# Altium footprint library EnergyHarvester_2012.PcbLib: 27 footprints (part 2 of 2)
Each footprint in its own frame and in the unit in brackets; x right, y up, seen from the top. Pads: shape width x height; smd on the part's side, far side on the other; paste and mask are expansions set on the pad; w line width, h text height; cw(c..) or ccw(c..) is an arc to the next point about the centre after c.
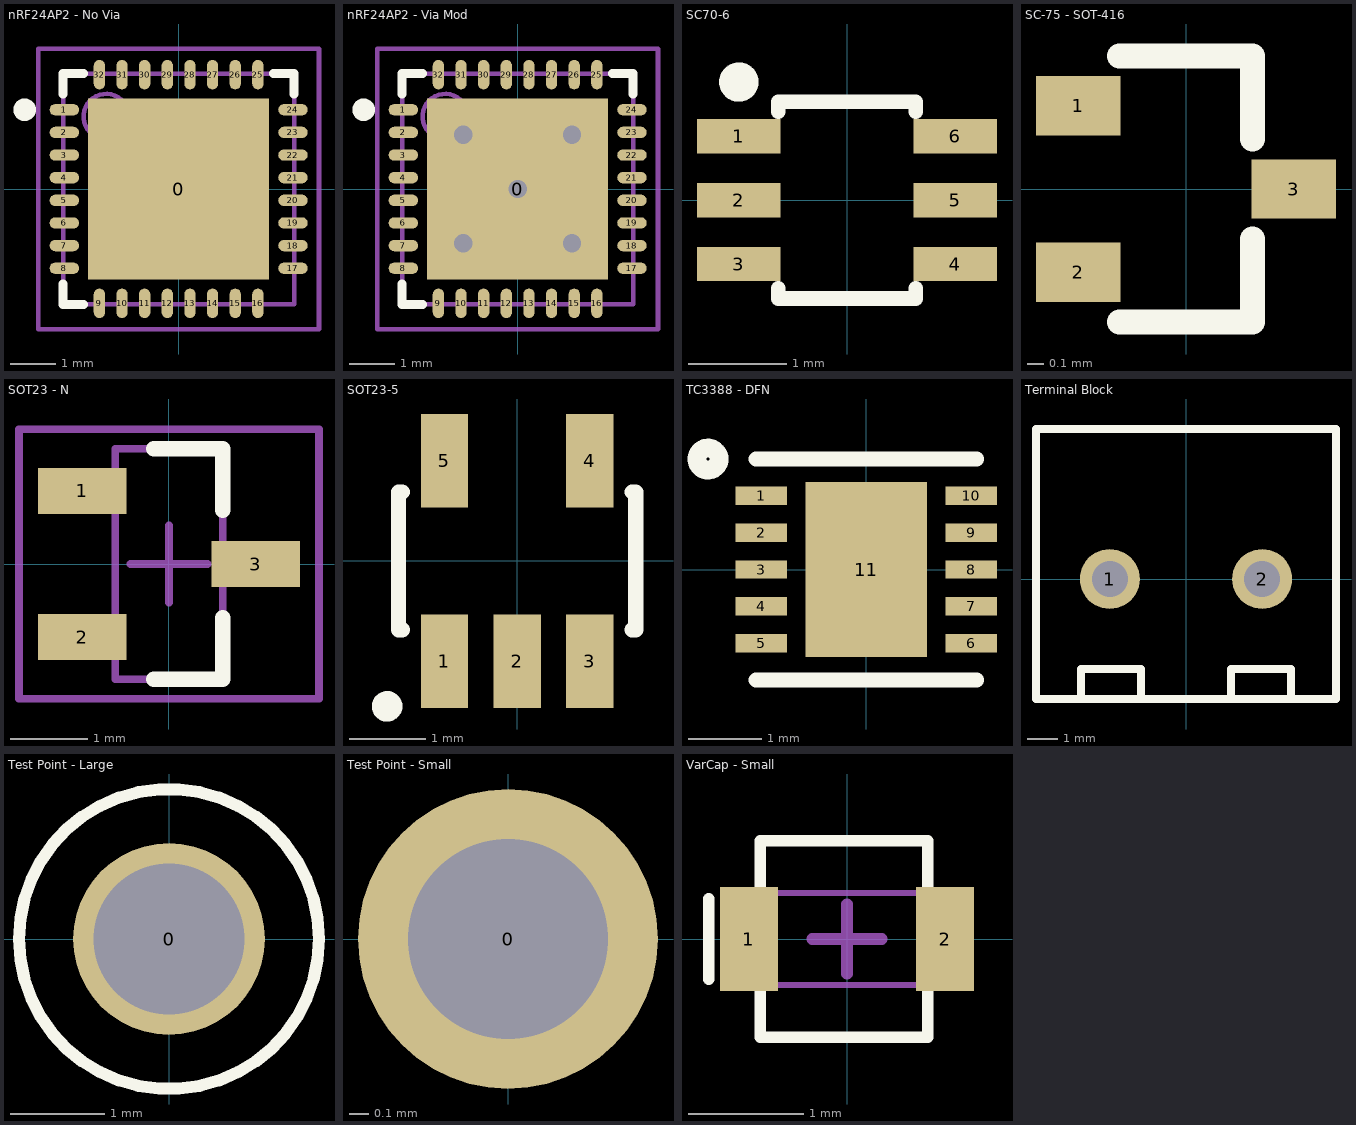
[diagram p1: the footprints below, top view; thin cyan lines are the x and y axes]

## nRF24AP2 - No Via [mm] "RF Transceiver SNGL-CHP ANT (Modifed to meet sunstone via rules)"
height 0.85
pads (33):
  rect 4x4 smd: 0(0,0)
  oval 0.65x0.25 smd: 1(-2.525,1.75) 2(-2.525,1.25) 3(-2.525,0.75) 4(-2.525,0.25) 5(-2.525,-0.25) 6(-2.525,-0.75) 7(-2.525,-1.25) 8(-2.525,-1.75) 17(2.525,-1.75) 18(2.525,-1.25) 19(2.525,-0.75) 20(2.525,-0.25) 21(2.525,0.25) 22(2.525,0.75) 23(2.525,1.25) 24(2.525,1.75)
  oval 0.25x0.65 smd: 9(-1.75,-2.525) 10(-1.25,-2.525) 11(-0.75,-2.525) 12(-0.25,-2.525) 13(0.25,-2.525) 14(0.75,-2.525) 15(1.25,-2.525) 16(1.75,-2.525) 25(1.75,2.525) 26(1.25,2.525) 27(0.75,2.525) 28(0.25,2.525) 29(-0.25,2.525) 30(-0.75,2.525) 31(-1.25,2.525) 32(-1.75,2.525)
Top Overlay:
  circle w0.25: c-3.4,1.75 r0.125
  lines w0.2: -2.55,-2.1 -2.55,-2.55 -2.1,-2.55 ; -2.55,2.1 -2.55,2.55 -2.1,2.55 ; 2.1,2.55 2.55,2.55 2.55,2.1
Mechanical 13:
  circle w0.1: c-1.6,1.6 r0.5
  lines w0.1: -2.55,-2.55 -2.55,2.55 2.55,2.55 2.55,-2.55 -2.55,-2.55
Mechanical 15:
  lines w0.1: -0.5,0 0.5,0 ; 0,-0.5 0,0.5 ; -3.1,-3.1 -3.1,3.1 3.1,3.1 3.1,-3.1 -3.1,-3.1
3D body: height 0.85, standoff 0.02, extent -2.55,-2.55 2.55,2.55

## nRF24AP2 - Via Mod [mm] "RF Transceiver SNGL-CHP ANT (Modifed to meet sunstone via rules)"
height 0.85
pads (33):
  rect 4x4 smd: 0(0,0)
  oval 0.65x0.25 smd: 1(-2.525,1.75) 2(-2.525,1.25) 3(-2.525,0.75) 4(-2.525,0.25) 5(-2.525,-0.25) 6(-2.525,-0.75) 7(-2.525,-1.25) 8(-2.525,-1.75) 17(2.525,-1.75) 18(2.525,-1.25) 19(2.525,-0.75) 20(2.525,-0.25) 21(2.525,0.25) 22(2.525,0.75) 23(2.525,1.25) 24(2.525,1.75)
  oval 0.25x0.65 smd: 9(-1.75,-2.525) 10(-1.25,-2.525) 11(-0.75,-2.525) 12(-0.25,-2.525) 13(0.25,-2.525) 14(0.75,-2.525) 15(1.25,-2.525) 16(1.75,-2.525) 25(1.75,2.525) 26(1.25,2.525) 27(0.75,2.525) 28(0.25,2.525) 29(-0.25,2.525) 30(-0.75,2.525) 31(-1.25,2.525) 32(-1.75,2.525)
via -1.2,-1.2 diameter 0.838 hole 0.406
via -1.2,1.2 diameter 0.838 hole 0.406
via 0,0 diameter 0.838 hole 0.406
via 1.2,-1.2 diameter 0.838 hole 0.406
via 1.2,1.2 diameter 0.838 hole 0.406
Top Overlay:
  circle w0.25: c-3.4,1.75 r0.125
  lines w0.2: -2.55,-2.1 -2.55,-2.55 -2.1,-2.55 ; -2.55,2.1 -2.55,2.55 -2.1,2.55 ; 2.1,2.55 2.55,2.55 2.55,2.1
Mechanical 13:
  circle w0.1: c-1.6,1.6 r0.5
  lines w0.1: -2.55,-2.55 -2.55,2.55 2.55,2.55 2.55,-2.55 -2.55,-2.55
Mechanical 15:
  lines w0.1: -0.5,0 0.5,0 ; 0,-0.5 0,0.5 ; -3.1,-3.1 -3.1,3.1 3.1,3.1 3.1,-3.1 -3.1,-3.1
3D body: height 0.85, standoff 0.02, extent -2.55,-2.55 2.55,2.55

## SC70-6 [mm]
pads (6):
  rect 0.85x0.35 smd: 1(-1.1,0.65) 2(-1.1,0) 3(-1.1,-0.65) 4(1.1,-0.65) 5(1.1,0) 6(1.1,0.65)
Top Overlay:
  circle w0.2: c-1.1,1.2 r0.1
  lines w0.15: -0.7,-0.9 -0.7,-1 0.7,-1 0.7,-0.9 ; -0.7,0.9 -0.7,1 0.7,1 0.7,0.9
Mechanical 13:
  circle w0.1: c-1.1,0.65 r0.05
  text ".Designator" at -0.2,0.8 h0.38
3D body: height 1.1, standoff 0, extent -0.7,-1 0.7,1

## SC-75 - SOT-416 [mil] "SC-75, 3-Leads, Body"
height 31.5
pads (3):
  rect 20x14.02 smd: 1(-25.49,19.68) 2(-25.49,-19.68) 3(25.49,0)
Top Overlay:
  lines w5.91: -15.75,-31.5 15.75,-31.5 15.75,-11.81 ; -15.75,31.5 15.75,31.5 15.75,11.81
Mechanical 13:
  text ".Designator" at -7.87,23.62 h15
3D body: height 31.5, standoff 0, extent -15.75,-31.5 15.75,31.5

## SOT23 - N [mm] "SOT23, 3-Leads, Body 2.9x1.3mm, Pitch 0.95mm, Lead Span 2.3mm - Reverse Pinning, IPC Medium Density"
height 1.1
pads (3):
  rect 1.15x0.6 smd: 1(-1.125,0.95) 2(-1.125,-0.95) 3(1.125,0)
Top Overlay:
  lines w0.2: -0.2,-1.5 0.7,-1.5 0.7,-0.7 ; -0.2,1.5 0.7,1.5 0.7,0.7
Mechanical 13:
  lines w0.1: -0.7,-1.5 -0.7,1.5 0.7,1.5 0.7,-1.5 -0.7,-1.5
Mechanical 15:
  lines w0.1: -0.5,0 0.5,0 ; 0,-0.5 0,0.5 ; -1.95,-1.75 -1.95,1.75 1.95,1.75 1.95,-1.75 -1.95,-1.75
3D body: height 1.1, standoff 0, extent -0.7,-1.5 0.7,1.5

## SOT23-5 [mm] "SOT23-5"
height 1.27
pads (5):
  rect 0.62x1.22 smd: 1(-0.95,-1.31) 2(0,-1.31) 3(0.95,-1.31) 4(0.95,1.31) 5(-0.95,1.31)
Top Overlay:
  circle w0.2: c-1.7,-1.9 r0.1
  lines w0.2: -1.5,-0.9 -1.55,-0.9 -1.55,0.9 -1.5,0.9 ; 1.5,-0.9 1.55,-0.9 1.55,0.9 1.5,0.9
Mechanical 13:
  text ".Designator" at -1.2,-0.2 h0.51
3D body: height 1, standoff 0, extent -1.55,-0.9 1.55,0.9

## TC3388 - DFN [mm] "IC REG BUCK SYNC 50MA 10DFN"
height 0.75
pads (11):
  rect 0.7x0.25 smd: 1(-1.425,1) 2(-1.425,0.5) 3(-1.425,0) 4(-1.425,-0.5) 5(-1.425,-1) 6(1.425,-1) 7(1.425,-0.5) 8(1.425,0) 9(1.425,0.5) 10(1.425,1)
  rect 1.65x2.38 smd: 11(0,0)
Top Overlay:
  circle w0.254: c-2.15,1.5 r0.15
  lines w0.2: -1.5,-1.5 1.5,-1.5 ; -1.5,1.5 1.5,1.5
3D body: height 0.75, standoff 0, extent -1.5,-1.5 1.5,1.5

## Terminal Block [mm] "TERMINAL BLOCK 5.08MM VERT 2POS"
height 12
pads (2):
  round 2 hole 1.2: 1(-2.54,0) 2(2.54,0)
Top Overlay:
  lines w0.254: -3.5,-4 -3.5,-3 -1.5,-3 -1.5,-4 ; 1.5,-4 1.5,-3 3.5,-3 3.5,-4 ; -5,-4 -5,5 5,5 5,-4 -5,-4

## Test Point - Large [mil] "Test Point, 63mil hole, example DK: 5012K-ND"
pads (1):
  round 80 hole 63: 0(0,0)
Top Overlay:
  circle w5: c0,0 r62.5

## Test Point - Small [mil] "Test Point, 40mil hole, example DK: 5000K-ND"
pads (1):
  round 60 hole 40: 0(0,0)

## VarCap - Small [mm] "High Q Trimmer Cap - Small Size (0603) - TZR1R080A001R00"
height 0.9
pads (2):
  rect 0.5x0.9 smd: 1(-0.85,0) 2(0.85,0)
Top Overlay:
  lines w0.1: -1.2,-0.35 -1.2,0.35 ; -0.75,-0.85 0.7,-0.85 0.7,0.85 -0.75,0.85 -0.75,-0.85
Mechanical 13:
  lines w0.051: -0.8,-0.4 -0.8,0.4 0.8,0.4 0.8,-0.4 -0.8,-0.4
Mechanical 15:
  lines w0.1: -0.3,0 0.3,0 ; 0,-0.3 0,0.3
3D body: height 0.9, standoff 0, extent -0.75,-0.85 0.7,0.85